# Altium footprint library SparkFun-IC-Special-Function.PCBLIB: 46 footprints (part 1 of 3)
Each footprint in its own frame and in the unit in brackets; x right, y up, seen from the top. Pads: shape width x height; smd on the part's side, far side on the other; paste and mask are expansions set on the pad; w line width, h text height; cw(c..) or ccw(c..) is an arc to the next point about the centre after c.
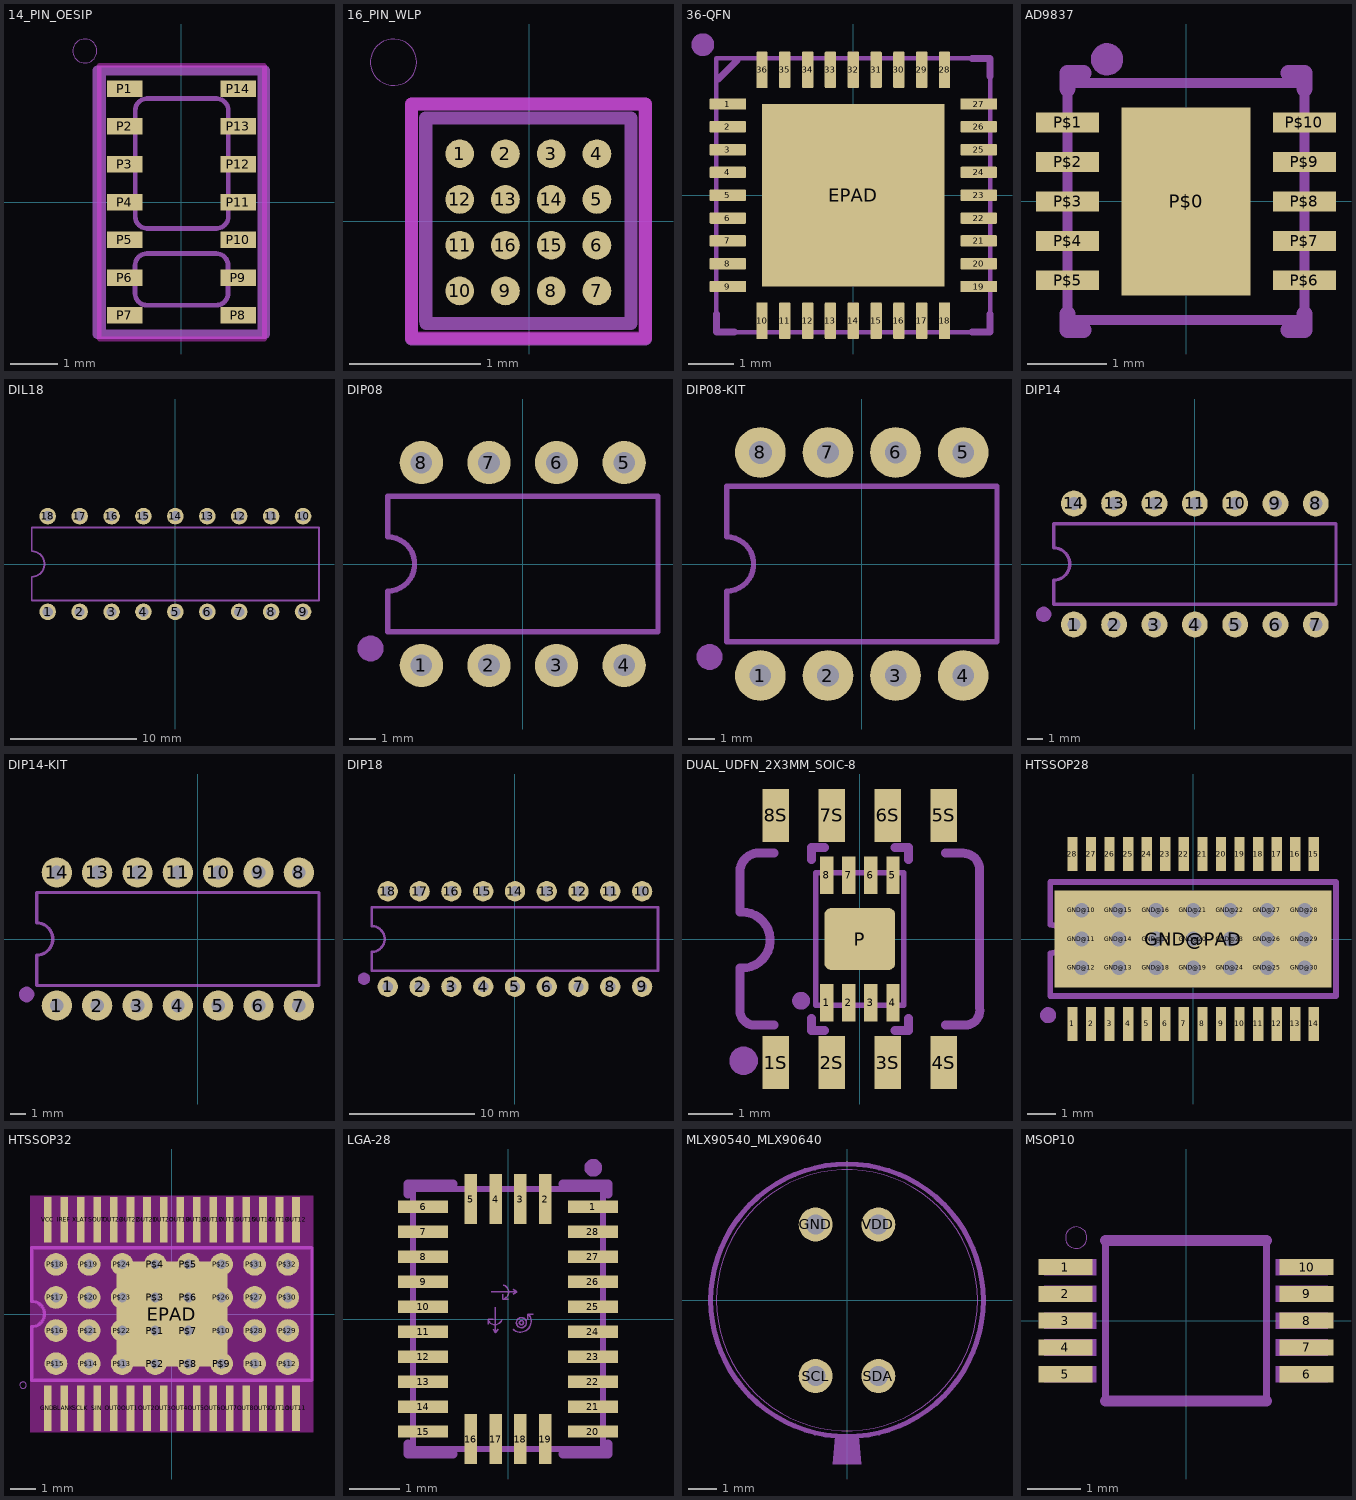
[diagram p0: the footprints below, top view; thin cyan lines are the x and y axes]

## 14_PIN_OESIP [mm]
pads (14):
  rect 0.75x0.35 smd: P1(-1.193,2.409) P2(-1.193,1.609) P3(-1.193,0.809) P4(-1.193,0.009) P5(-1.193,-0.791) P6(-1.193,-1.591) P7(-1.193,-2.391) P8(1.208,-2.391) P9(1.208,-1.591) P10(1.208,-0.791) P11(1.208,0.009) P12(1.208,0.809) P13(1.208,1.609) P14(1.208,2.409)
Top keep-out:
  lines w0.1: 1.761,2.908 -1.738,2.908 -1.737,-2.892 1.765,-2.891 1.764,-2.853 ; 1.764,-2.861 1.764,2.897
tDocu:
  lines w0.1: -1.638,-2.79 -1.638,2.81 1.662,2.81 1.662,-2.79 -1.638,-2.79 ; -0.978,-1.926 ccw(c-0.727,-1.926) -0.727,-2.176 0.742,-2.176 ccw(c0.742,-1.926) 0.992,-1.926 0.992,-1.332 ccw(c0.742,-1.332) 0.742,-1.082 -0.727,-1.082 ccw(c-0.728,-1.332) -0.978,-1.332 -0.978,-1.926 ; -0.973,-0.3 ccw(c-0.723,-0.3) -0.723,-0.55 0.748,-0.55 ccw(c0.748,-0.3) 0.997,-0.3 0.997,1.95 ccw(c0.747,1.95) 0.748,2.2 -0.723,2.2 ccw(c-0.723,1.95) -0.973,1.95 -0.973,-0.3
tPlace:
  circle w0: c-2.041,3.208 r0.254
  lines w0.203: -1.778,-2.794 1.778,-2.794 1.778,2.794 -1.778,2.794 -1.778,-2.794

## 16_PIN_WLP [mil]
pads (16):
  rrect100% 8.66x8.66 smd mask+0: 1(-20.94,20.39) 2(-7.17,20.39) 3(6.61,20.39) 4(20.39,20.39) 5(20.39,6.61) 6(20.39,-7.17) 7(20.39,-20.94) 8(6.61,-20.94) 9(-7.17,-20.94) 10(-20.94,-20.94) 11(-20.94,-7.17) 12(-20.94,6.61) 13(-7.17,6.61) 14(6.61,6.61) 15(6.61,-7.17) 16(-7.17,-7.17)
Top keep-out:
  lines w3.94: -35.51,-35.12 34.96,-35.12 34.96,35.35 -35.51,35.35 -35.51,-35.12
Top Solder:
  circle w0: c-20.94,-20.94 r4.33
  circle w0: c-7.17,-20.94 r4.33
  circle w0: c6.61,-20.94 r4.33
  circle w0: c20.39,-20.94 r4.33
  circle w0: c20.39,-7.17 r4.33
  circle w0: c6.61,-7.17 r4.33
  circle w0: c-7.17,-7.17 r4.33
  circle w0: c-20.94,-7.17 r4.33
  circle w0: c-20.94,6.61 r4.33
  circle w0: c-7.17,6.61 r4.33
  circle w0: c6.61,6.61 r4.33
  circle w0: c20.39,6.61 r4.33
  circle w0: c20.39,20.39 r4.33
  circle w0: c6.61,20.39 r4.33
  circle w0: c-7.17,20.39 r4.33
  circle w0: c-20.94,20.39 r4.33
tDocu:
  lines w3.94: -31.18,-30.07 -31.18,31.1 ; -31.15,-30.79 30.71,-30.79 ; -31.15,31.1 30.71,31.1 30.71,-30.07
tPlace:
  circle w0: c-40.87,47.95 r7
  lines w3.94: -35.43,-35.43 -35.43,35.43 35.08,35.43 35.08,-35.43 -35.43,-35.43

## 36-QFN [mil]
pads (37):
  rrect20% 31.5x9.84 smd paste+0: 1(-108.27,78.74) 2(-108.27,59.06) 3(-108.27,39.37) 4(-108.27,19.69) 5(-108.27,0) 6(-108.27,-19.69) 7(-108.27,-39.37) 8(-108.27,-59.06) 9(-108.27,-78.74) 19(108.27,-78.74) 20(108.27,-59.06) 21(108.27,-39.37) 22(108.27,-19.69) 23(108.27,0) 24(108.27,19.69) 25(108.27,39.37) 26(108.27,59.06) 27(108.27,78.74)
  rrect20% 9.84x31.5 smd paste+0: 10(-78.74,-108.27) 11(-59.06,-108.27) 12(-39.37,-108.27) 13(-19.69,-108.27) 14(0,-108.27) 15(19.69,-108.27) 16(39.37,-108.27) 17(59.06,-108.27) 18(78.74,-108.27) 28(78.74,108.27) 29(59.06,108.27) 30(39.37,108.27) 31(19.69,108.27) 32(0,108.27) 33(-19.69,108.27) 34(-39.37,108.27) 35(-59.06,108.27) 36(-78.74,108.27)
  rect 157.48x157.48 smd paste+0: EPAD(0,0)
Top Paste:
  drawing of 52 lines, arcs and shapes, not listed
tDocu:
  lines w3.94: -118.11,98.43 -98.43,118.11 ; -118.11,-118.11 118.11,-118.11 118.11,118.11 -118.11,118.11 -118.11,-118.11
tPlace:
  circle w9.84: c-129.92,129.92 r4.92
  lines w6: -118.11,-102.36 -118.11,-118.11 -102.36,-118.11 ; -116.14,100.39 -100.39,116.14 ; 102.36,-118.11 118.11,-118.11 118.11,-102.36 ; 102.36,118.11 118.11,118.11 118.11,102.36

## AD9837 [mil]
pads (11):
  rect 64.57x93.7 smd paste+0: P$0(0,0)
  rect 31.5x9.84 smd: P$1(-59.06,39.37) P$2(-59.06,19.69) P$3(-59.06,0) P$4(-59.06,-19.69) P$5(-59.06,-39.37) P$6(59.06,-39.37) P$7(59.06,-19.69) P$8(59.06,0) P$9(59.06,19.69) P$10(59.06,39.37)
Top Paste:
  region: -15,-20 -15,20 15,20 15,-20
tDocu:
  lines w5: -59.06,-59.06 -59.06,59.06 59.06,59.06 59.06,-59.06 -59.06,-59.06
tPlace:
  circle w5: c-39.37,70.87 r5.57
  lines w5: -43.31,70.87 -35.43,70.87 ; -39.37,66.93 -39.37,74.8
  lines w8: -59.06,-56.18 -59.06,-64.06 -51.18,-64.06 ; -59.06,56.18 -59.06,64.06 -51.18,64.06 ; 51.18,-64.06 59.06,-64.06 59.06,-56.18 ; 51.18,64.06 59.06,64.06 59.06,56.18

## DIL18 [mil]
pads (18):
  round 52 hole 32: 1(-400,-150) 2(-300,-150) 3(-200,-150) 4(-100,-150) 5(0,-150) 6(100,-150) 7(200,-150) 8(300,-150) 9(400,-150) 10(400,150) 11(300,150) 12(200,150) 13(100,150) 14(0,150) 15(-100,150) 16(-200,150) 17(-300,150) 18(-400,150)
tPlace:
  lines w6: -450,-115 450,-115 450,115 -450,115 -450,40 cw(c-450,0) -450,-40 -450,-115

## DIP08 [mil]
pads (8):
  round 64 hole 32: 1(-150,-150) 2(-50,-150) 3(50,-150) 4(150,-150) 5(150,150) 6(50,150) 7(-50,150) 8(-150,150)
tPlace:
  region: -243.75,-125 -243.75,-121.27 -240.9,-114.38 -235.62,-109.1 -228.73,-106.25 -225,-106.25 -221.27,-106.25 -214.38,-109.1 -209.1,-114.38 -206.25,-121.27 -206.25,-125 -206.25,-128.73 -209.1,-135.62 -214.38,-140.9 -221.27,-143.75 -225,-143.75 -228.73,-143.75 -235.62,-140.9 -240.9,-135.62 -243.75,-128.73 -243.75,-125
  lines w8: -200,-100 200,-100 200,100 -200,100 -200,40 cw(c-200,0) -200,-40 -200,-100

## DIP08-KIT [mil]
pads (8):
  round 75 hole 32: 1(-150,-165) 2(-50,-165) 3(50,-165) 4(150,-165) 5(150,165) 6(50,165) 7(-50,165)
  round 75 hole 34: 8(-150,165)
Top Solder:
  circle w0: c-150,165 r17
  circle w0: c-50,165 r17
  circle w0: c50,165 r17
  circle w0: c150,165 r17
  circle w0: c-150,-165 r17
  circle w0: c-50,-165 r17
  circle w0: c50,-165 r17
  circle w0: c150,-165 r17
Bottom Solder:
  circle w0: c-150,165 r42
  circle w0: c-50,165 r42
  circle w0: c50,165 r42
  circle w0: c150,165 r42
  circle w0: c-150,-165 r42
  circle w0: c-50,-165 r42
  circle w0: c50,-165 r42
  circle w0: c150,-165 r42
tPlace:
  region: -243.75,-137.5 -243.75,-133.77 -240.9,-126.88 -235.62,-121.6 -228.73,-118.75 -225,-118.75 -221.27,-118.75 -214.38,-121.6 -209.1,-126.88 -206.25,-133.77 -206.25,-137.5 -206.25,-141.23 -209.1,-148.12 -214.38,-153.4 -221.27,-156.25 -225,-156.25 -228.73,-156.25 -235.62,-153.4 -240.9,-148.12 -243.75,-141.23 -243.75,-137.5
  lines w8: -200,-115 -200,-40 ccw(c-200,0) -200,40 -200,115 200,115 200,-115 -200,-115

## DIP14 [mil]
pads (14):
  round 64 hole 32: 1(-300,-150) 2(-200,-150) 3(-100,-150) 4(0,-150) 5(100,-150) 6(200,-150) 7(300,-150) 8(300,150) 9(200,150) 10(100,150) 11(0,150) 12(-100,150) 13(-200,150) 14(-300,150)
tPlace:
  region: -393.75,-125 -393.75,-121.27 -390.9,-114.38 -385.62,-109.1 -378.73,-106.25 -375,-106.25 -371.27,-106.25 -364.38,-109.1 -359.1,-114.38 -356.25,-121.27 -356.25,-125 -356.25,-128.73 -359.1,-135.62 -364.38,-140.9 -371.27,-143.75 -375,-143.75 -378.73,-143.75 -385.62,-140.9 -390.9,-135.62 -393.75,-128.73 -393.75,-125
  lines w8: -350,-100 350,-100 350,100 -350,100 -350,40 cw(c-350,0) -350,-40 -350,-100

## DIP14-KIT [mil]
pads (14):
  round 75 hole 34: 1(-350,-165) 2(-250,-165) 3(-150,-165) 4(-50,-165) 5(50,-165) 6(150,-165) 7(250,-165) 8(250,165) 9(150,165) 10(50,165) 11(-50,165) 12(-150,165) 13(-250,165) 14(-350,165)
Top Solder:
  circle w0: c-350,165 r17
  circle w0: c-350,-165 r17
  circle w0: c-250,165 r17
  circle w0: c-250,-165 r17
  circle w0: c-150,165 r17
  circle w0: c-150,-165 r17
  circle w0: c-50,165 r17
  circle w0: c-50,-165 r17
  circle w0: c50,165 r17
  circle w0: c50,-165 r17
  circle w0: c150,165 r17
  circle w0: c150,-165 r17
  circle w0: c250,165 r17
  circle w0: c250,-165 r17
Bottom Solder:
  circle w0: c-350,165 r42
  circle w0: c-350,-165 r42
  circle w0: c-250,165 r42
  circle w0: c-250,-165 r42
  circle w0: c-150,165 r42
  circle w0: c-150,-165 r42
  circle w0: c-50,165 r42
  circle w0: c-50,-165 r42
  circle w0: c50,165 r42
  circle w0: c50,-165 r42
  circle w0: c150,165 r42
  circle w0: c150,-165 r42
  circle w0: c250,165 r42
  circle w0: c250,-165 r42
tPlace:
  region: -443.75,-137.5 -443.75,-133.77 -440.9,-126.88 -435.62,-121.6 -428.73,-118.75 -425,-118.75 -421.27,-118.75 -414.38,-121.6 -409.1,-126.88 -406.25,-133.77 -406.25,-137.5 -406.25,-141.23 -409.1,-148.12 -414.38,-153.4 -421.27,-156.25 -425,-156.25 -428.73,-156.25 -435.62,-153.4 -440.9,-148.12 -443.75,-141.23 -443.75,-137.5
  lines w8: -400,-115 -400,-40 ccw(c-400,0) -400,40 -400,115 300,115 300,-115 -400,-115

## DIP18 [mil]
pads (18):
  round 64 hole 32: 1(-400,-150) 2(-300,-150) 3(-200,-150) 4(-100,-150) 5(0,-150) 6(100,-150) 7(200,-150) 8(300,-150) 9(400,-150) 10(400,150) 11(300,150) 12(200,150) 13(100,150) 14(0,150) 15(-100,150) 16(-200,150) 17(-300,150) 18(-400,150)
tPlace:
  region: -493.75,-125 -493.75,-121.27 -490.9,-114.38 -485.62,-109.1 -478.73,-106.25 -475,-106.25 -471.27,-106.25 -464.38,-109.1 -459.1,-114.38 -456.25,-121.27 -456.25,-125 -456.25,-128.73 -459.1,-135.62 -464.38,-140.9 -471.27,-143.75 -475,-143.75 -478.73,-143.75 -485.62,-140.9 -490.9,-135.62 -493.75,-128.73 -493.75,-125
  lines w8: -450,-100 450,-100 450,100 -450,100 -450,40 cw(c-450,0) -450,-40 -450,-100

## DUAL_UDFN_2X3MM_SOIC-8 [mil]
pads (17):
  rect 11.81x33.46 smd: 1(-29.53,-57.09) 2(-9.84,-57.09) 3(9.84,-57.09) 4(29.53,-57.09) 5(29.53,57.09) 6(9.84,57.09) 7(-9.84,57.09) 8(-29.53,57.09)
  rect 23.62x47.24 smd: 1S(-75,-110.24) 2S(-25,-110.24) 3S(25,-110.24) 4S(75,-110.24) 5S(75,110.24) 6S(25,110.24) 7S(-25,110.24) 8S(-75,110.24)
  rrect20% 62.99x55.12 smd paste+0: P(0,0)
Top Paste:
  region: -25,-15 -25,15 25,15 25,-15
tDocu:
  region: -85,-130 -85,-89.5 -65,-89.5 -65,-130
  region: -35,-130 -35,-89.5 -15,-89.5 -15,-130
  region: 15,-130 15,-89.5 35,-89.5 35,-130
  region: 65,-130 65,-89.5 85,-89.5 85,-130
  region: -35,90 -35,130 -15,130 -15,90
  region: 15,90 15,130 35,130 35,90
  region: 65,90 65,130 85,130 85,90
  region: -85,90 -85,130 -65,130 -65,90
  lines w5: -39.37,-59.06 -39.37,59.06 39.37,59.06 39.37,-59.06 -39.37,-59.06
tPlace:
  circle w8: c-52.37,-55.11 r3.94
  region: -91.25,-108.75 -91.25,-106.26 -93.15,-101.67 -96.67,-98.15 -101.26,-96.25 -103.75,-96.25 -106.24,-96.25 -110.83,-98.15 -114.35,-101.67 -116.25,-106.26 -116.25,-108.75 -116.25,-111.24 -114.35,-115.83 -110.83,-119.35 -106.24,-121.25 -103.75,-121.25 -101.26,-121.25 -96.67,-119.35 -93.15,-115.83 -91.25,-111.24 -91.25,-108.75
  lines w8: -107,-26 -107,-65.56 ccw(c-93.97,-63.6) -92,-76.63 -76.63,-76.63 ; -107,24 -107,57.19 ; -107,57.69 cw(c-90.03,59.66) -92,76.63 -76.63,76.63 ; -105,-26 ccw(c-105,-1) -105,24 ; -43.31,-70.87 -43.31,-81.68 -31.5,-81.68 ; -43.31,70.87 -43.31,81.68 -31.5,81.68 ; 31.5,-81.68 43.31,-81.68 43.31,-70.87 ; 31.5,81.68 43.31,81.68 43.31,70.87 ; 76.63,-76.63 95.94,-76.63 ccw(c93.97,-63.6) 107,-61.63 107,61.63 ccw(c92,61.63) 92,76.63 76.63,76.63
Reference:
  circle w1: c20,0 r5.9
  circle w1: c-20,0 r5.9

## HTSSOP28 [mil]
pads (50):
  rect 14.17x46.85 smd: 1(-166.34,-116.93) 2(-140.75,-116.93) 3(-115.16,-116.93) 4(-89.57,-116.93) 5(-63.98,-116.93) 6(-38.39,-116.93) 7(-12.8,-116.93) 8(12.8,-116.93) 9(38.39,-116.93) 10(63.98,-116.93) 11(89.57,-116.93) 12(115.16,-116.93) 13(140.75,-116.93) 14(166.34,-116.93) 15(166.34,116.93) 16(140.75,116.93) 17(115.16,116.93) 18(89.57,116.93) 19(63.98,116.93) 20(38.39,116.93) 21(12.8,116.93) 22(-12.8,116.93) 23(-38.39,116.93) 24(-63.98,116.93) 25(-89.57,116.93) 26(-115.16,116.93) 27(-140.75,116.93) 28(-166.34,116.93)
  round 40 hole 20: GND@10(-153.54,39.37) GND@11(-153.54,0) GND@12(-153.54,-39.37) GND@13(-102.36,-39.37) GND@14(-102.36,0) GND@15(-102.36,39.37) GND@16(-51.18,39.37) GND@17(-51.18,0) GND@18(-51.18,-39.37) GND@19(0,-39.37) GND@20(0,0) GND@21(0,39.37) GND@22(51.18,39.37) GND@23(51.18,0) GND@24(51.18,-39.37) GND@25(102.36,-39.37) GND@26(102.36,0) GND@27(102.36,39.37) GND@28(153.54,39.37) GND@29(153.54,0) GND@30(153.54,-39.37)
  rect 381.89x133.86 smd paste+0 mask+0: GND@PAD(0,0)
Top Paste:
  region: -98.43,-59.06 -98.43,59.06 98.43,59.06 98.43,-59.06
Top Solder:
  region: -101.97,-61.02 -101.97,61.02 101.97,61.02 101.97,-61.02
tPlace:
  circle w12: c-200,-105 r5
  lines w8: -196.85,-78.74 -196.85,-19.69 ccw(c-196.85,0) -196.85,19.69 -196.85,78.74 196.85,78.74 196.85,-78.74 -196.85,-78.74

## HTSSOP32 [mil]
pads (65):
  rect 11.81x70.87 smd paste+0 mask+0: BLANK(-166.34,-145.67) GND(-191.93,-145.67) IREF(-166.34,145.67) OUT0(-89.57,-145.67) OUT1(-63.98,-145.67) OUT2(-38.39,-145.67) OUT3(-12.8,-145.67) OUT4(12.8,-145.67) OUT5(38.39,-145.67) OUT6(63.98,-145.67) OUT7(89.57,-145.67) OUT8(115.16,-145.67) OUT9(140.75,-145.67) OUT10(166.34,-145.67) OUT11(191.93,-145.67) OUT12(191.93,145.67) OUT13(166.34,145.67) OUT14(140.75,145.67) OUT15(115.16,145.67) OUT16(89.57,145.67) OUT17(63.98,145.67) OUT18(38.39,145.67) OUT19(12.8,145.67) OUT20(-12.8,145.67) OUT21(-38.39,145.67) OUT22(-63.98,145.67) OUT23(-89.57,145.67) SCLK(-140.75,-145.67) SIN(-115.16,-145.67) SOUT(-115.16,145.67) VCC(-191.93,145.67) XLAT(-140.75,145.67)
  rect 171.65x161.81 smd paste+0 mask+0: EPAD(0,0)
  round 35 hole 15: P$1(-25.59,-25.59) P$2(-25.59,-76.77) P$3(-25.59,25.59) P$4(-25.59,76.77) P$5(25.59,76.77) P$6(25.59,25.59) P$7(25.59,-25.59) P$8(25.59,-76.77) P$9(76.77,-76.77) P$10(76.77,-25.59) P$11(127.95,-76.77) P$12(179.13,-76.77) P$13(-76.77,-76.77) P$14(-127.95,-76.77) P$15(-179.13,-76.77) P$16(-179.13,-25.59) P$17(-179.13,25.59) P$18(-179.13,76.77) P$19(-127.95,76.77) P$20(-127.95,25.59) P$21(-127.95,-25.59) P$22(-76.77,-25.59) P$23(-76.77,25.59) P$24(-76.77,76.77) P$25(76.77,76.77) P$26(76.77,25.59) P$27(127.95,25.59) P$28(127.95,-25.59) P$29(179.13,-25.59) P$30(179.13,25.59) P$31(127.95,76.77) P$32(179.13,76.77)
Top keep-out:
  region: -218.54,-183.1 -218.54,183.1 218.54,183.1 218.54,-183.1
Top Paste:
  region: -78.74,-73.82 -78.74,73.82 78.74,73.82 78.74,-73.82
  region: -15.94,-178.35 -15.94,-112.99 -9.65,-112.99 -9.65,-178.35
  region: -15.94,-178.35 -15.94,-112.99 -9.65,-112.99 -9.65,-178.35
  region: -41.54,-178.35 -41.54,-112.99 -35.24,-112.99 -35.24,-178.35
  region: -67.13,-178.35 -67.13,-112.99 -60.83,-112.99 -60.83,-178.35
  region: -92.72,-178.35 -92.72,-112.99 -86.42,-112.99 -86.42,-178.35
  region: -118.31,-178.35 -118.31,-112.99 -112.01,-112.99 -112.01,-178.35
  region: -143.9,-178.35 -143.9,-112.99 -137.6,-112.99 -137.6,-178.35
  region: -169.49,-178.35 -169.49,-112.99 -163.19,-112.99 -163.19,-178.35
  region: -195.08,-178.35 -195.08,-112.99 -188.78,-112.99 -188.78,-178.35
  region: 9.65,-178.35 9.65,-112.99 15.94,-112.99 15.94,-178.35
  region: 35.24,-178.35 35.24,-112.99 41.54,-112.99 41.54,-178.35
  region: 60.83,-178.35 60.83,-112.99 67.13,-112.99 67.13,-178.35
  region: 112.01,-178.35 112.01,-112.99 118.31,-112.99 118.31,-178.35
  region: 86.42,-178.35 86.42,-112.99 92.72,-112.99 92.72,-178.35
  region: 137.6,-178.35 137.6,-112.99 143.9,-112.99 143.9,-178.35
  region: 163.19,-178.35 163.19,-112.99 169.49,-112.99 169.49,-178.35
  region: 188.78,-178.35 188.78,-112.99 195.08,-112.99 195.08,-178.35
  region: 188.78,112.99 188.78,178.35 195.08,178.35 195.08,112.99
  region: 163.19,112.99 163.19,178.35 169.49,178.35 169.49,112.99
  region: 137.6,112.99 137.6,178.35 143.9,178.35 143.9,112.99
  region: 112.01,112.99 112.01,178.35 118.31,178.35 118.31,112.99
  region: 86.42,112.99 86.42,178.35 92.72,178.35 92.72,112.99
  region: 60.83,112.99 60.83,178.35 67.13,178.35 67.13,112.99
  region: 35.24,112.99 35.24,178.35 41.54,178.35 41.54,112.99
  region: 9.65,112.99 9.65,178.35 15.94,178.35 15.94,112.99
  region: -15.94,112.99 -15.94,178.35 -9.65,178.35 -9.65,112.99
  region: -41.54,112.99 -41.54,178.35 -35.24,178.35 -35.24,112.99
  region: -67.13,112.99 -67.13,178.35 -60.83,178.35 -60.83,112.99
  region: -118.31,112.99 -118.31,178.35 -112.01,178.35 -112.01,112.99
  region: -92.72,112.99 -92.72,178.35 -86.42,178.35 -86.42,112.99
  region: -143.9,112.99 -143.9,178.35 -137.6,178.35 -137.6,112.99
  region: -169.49,112.99 -169.49,178.35 -163.19,178.35 -163.19,112.99
  region: -195.08,112.99 -195.08,178.35 -188.78,178.35 -188.78,112.99
Top Solder:
  region: -85.83,-80.91 -85.83,80.91 85.83,80.91 85.83,-80.91
  region: -197.83,-181.1 -197.83,-110.24 -186.02,-110.24 -186.02,-181.1
  region: -197.83,110.24 -197.83,181.1 -186.02,181.1 -186.02,110.24
  region: -172.24,110.24 -172.24,181.1 -160.43,181.1 -160.43,110.24
  region: -146.65,110.24 -146.65,181.1 -134.84,181.1 -134.84,110.24
  region: -121.06,110.24 -121.06,181.1 -109.25,181.1 -109.25,110.24
  region: -95.47,110.24 -95.47,181.1 -83.66,181.1 -83.66,110.24
  region: -69.88,110.24 -69.88,181.1 -58.07,181.1 -58.07,110.24
  region: -44.29,110.24 -44.29,181.1 -32.48,181.1 -32.48,110.24
  region: -18.7,110.24 -18.7,181.1 -6.89,181.1 -6.89,110.24
  region: 6.89,110.24 6.89,181.1 18.7,181.1 18.7,110.24
  region: 32.48,110.24 32.48,181.1 44.29,181.1 44.29,110.24
  region: 58.07,110.24 58.07,181.1 69.88,181.1 69.88,110.24
  region: 83.66,110.24 83.66,181.1 95.47,181.1 95.47,110.24
  region: 109.25,110.24 109.25,181.1 121.06,181.1 121.06,110.24
  region: 134.84,110.24 134.84,181.1 146.65,181.1 146.65,110.24
  region: 160.43,110.24 160.43,181.1 172.24,181.1 172.24,110.24
  region: 186.02,110.24 186.02,181.1 197.83,181.1 197.83,110.24
  region: 186.02,-181.1 186.02,-110.24 197.83,-110.24 197.83,-181.1
  region: 160.43,-181.1 160.43,-110.24 172.24,-110.24 172.24,-181.1
  region: 134.84,-181.1 134.84,-110.24 146.65,-110.24 146.65,-181.1
  region: 109.25,-181.1 109.25,-110.24 121.06,-110.24 121.06,-181.1
  region: 83.66,-181.1 83.66,-110.24 95.47,-110.24 95.47,-181.1
  region: 58.07,-181.1 58.07,-110.24 69.88,-110.24 69.88,-181.1
  region: 32.48,-181.1 32.48,-110.24 44.29,-110.24 44.29,-181.1
  region: 6.89,-181.1 6.89,-110.24 18.7,-110.24 18.7,-181.1
  region: -18.7,-181.1 -18.7,-110.24 -6.89,-110.24 -6.89,-181.1
  region: -44.29,-181.1 -44.29,-110.24 -32.48,-110.24 -32.48,-181.1
  region: -69.88,-181.1 -69.88,-110.24 -58.07,-110.24 -58.07,-181.1
  region: -95.47,-181.1 -95.47,-110.24 -83.66,-110.24 -83.66,-181.1
  region: -121.06,-181.1 -121.06,-110.24 -109.25,-110.24 -109.25,-181.1
  region: -146.65,-181.1 -146.65,-110.24 -134.84,-110.24 -134.84,-181.1
  region: -172.24,-181.1 -172.24,-110.24 -160.43,-110.24 -160.43,-181.1
tPlace:
  circle w0: c-230,-110 r5
  lines w5: -216.54,-102.36 216.54,-102.36 216.54,102.36 -216.54,102.36 -216.54,19.69 cw(c-216.54,0) -196.85,0 cw(c-216.54,0) -216.54,-19.69 -216.54,-102.36

## LGA-28 [mm]
pads (28):
  rect 1x0.25 smd paste+0: 1(1.7,2.25) 6(-1.7,2.25) 7(-1.7,1.75) 8(-1.7,1.25) 9(-1.7,0.75) 10(-1.7,0.25) 11(-1.7,-0.25) 12(-1.7,-0.75) 13(-1.7,-1.25) 14(-1.7,-1.75) 15(-1.7,-2.25) 20(1.7,-2.25) 21(1.7,-1.75) 22(1.7,-1.25) 23(1.7,-0.75) 24(1.7,-0.25) 25(1.7,0.25) 26(1.7,0.75) 27(1.7,1.25) 28(1.7,1.75)
  rect 0.25x1 smd paste+0: 2(0.75,2.4) 3(0.25,2.4) 4(-0.25,2.4) 5(-0.75,2.4) 16(-0.75,-2.4) 17(-0.25,-2.4) 18(0.25,-2.4) 19(0.75,-2.4)
Top Paste:
  region: -1.9,2.125 -1.9,2.375 -1.2,2.375 -1.2,2.125
  region: -1.9,1.125 -1.9,1.375 -1.2,1.375 -1.2,1.125
  region: -1.9,0.125 -1.9,0.375 -1.2,0.375 -1.2,0.125
  region: -1.9,-0.875 -1.9,-0.625 -1.2,-0.625 -1.2,-0.875
  region: -1.9,-1.875 -1.9,-1.625 -1.2,-1.625 -1.2,-1.875
  region: 0.875,-2.6 0.625,-2.6 0.625,-1.9 0.875,-1.9
  region: -0.125,-2.6 -0.375,-2.6 -0.375,-1.9 -0.125,-1.9
  region: 1.9,-2.125 1.9,-2.375 1.2,-2.375 1.2,-2.125
  region: 1.9,-1.125 1.9,-1.375 1.2,-1.375 1.2,-1.125
  region: 1.9,-0.125 1.9,-0.375 1.2,-0.375 1.2,-0.125
  region: 1.9,0.875 1.9,0.625 1.2,0.625 1.2,0.875
  region: 1.9,1.875 1.9,1.625 1.2,1.625 1.2,1.875
  region: 0.625,2.6 0.875,2.6 0.875,1.9 0.625,1.9
  region: -0.375,2.6 -0.125,2.6 -0.125,1.9 -0.375,1.9
  region: 0.125,2.6 0.375,2.6 0.375,1.9 0.125,1.9
  region: -0.875,2.6 -0.625,2.6 -0.625,1.9 -0.875,1.9
  region: -1.9,1.625 -1.9,1.875 -1.2,1.875 -1.2,1.625
  region: -1.9,0.625 -1.9,0.875 -1.2,0.875 -1.2,0.625
  region: -1.9,-0.375 -1.9,-0.125 -1.2,-0.125 -1.2,-0.375
  region: -1.9,-1.375 -1.9,-1.125 -1.2,-1.125 -1.2,-1.375
  region: -1.9,-2.375 -1.9,-2.125 -1.2,-2.125 -1.2,-2.375
  region: -0.625,-2.6 -0.875,-2.6 -0.875,-1.9 -0.625,-1.9
  region: 0.375,-2.6 0.125,-2.6 0.125,-1.9 0.375,-1.9
  region: 1.9,-1.625 1.9,-1.875 1.2,-1.875 1.2,-1.625
  region: 1.9,-0.625 1.9,-0.875 1.2,-0.875 1.2,-0.625
  region: 1.9,0.375 1.9,0.125 1.2,0.125 1.2,0.375
  region: 1.9,1.375 1.9,1.125 1.2,1.125 1.2,1.375
  region: 1.9,2.375 1.9,2.125 1.2,2.125 1.2,2.375
tDocu:
  circle w0.025: c0.269,-0.073 r0.041
  circle w0.025: c0.269,-0.073 r0.1
  lines w0.025: -0.4,-0.1 -0.4,0 ; -0.332,0.545 0.173,0.545 ; -0.3,-0.2 -0.255,-0.273 ; -0.3,0 -0.4,0 ; -0.255,0.232 -0.255,-0.273 ; -0.2,-0.2 -0.255,-0.273 ; -0.12,-0.003 cw(c-0.26,0.03) -0.4,0 ; -0.1,0.5 -0.1,0.4 ; -0.097,0.68 cw(c-0.13,0.54) -0.1,0.4 ; 0,0.4 -0.1,0.4 ; 0.1,-0.2 ccw(c0.25,-0.05) 0.4,0.1 ; 0.1,0.5 0.173,0.545 ; 0.1,0.6 0.173,0.545 ; 0.4,0 0.4,0.1 ; 0.5,0.1 0.4,0.1
  lines w0.127: -1.9,-2.6 1.9,-2.6 1.9,2.6 -1.9,2.6 -1.9,-2.6
  text "Y" at 0.4,0.5 h0.22
  text "Z" at 0.3,-0.6 h0.22
  text "X" at -0.255,-0.462 h0.22
tPlace:
  circle w0.203: c1.706,3.025 r0.076
  lines w0.178: -2,-2.5 -2,-2.7 -1.1,-2.7 ; -2,2.5 -2,2.7 -1.1,2.7 ; 1.1,-2.7 2,-2.7 2,-2.5 ; 1.1,2.7 2,2.7 2,2.5

## MLX90540_MLX90640 [mil]
pads (4):
  round 47.56 hole 27.56: GND(-43.99,106.21) SCL(-43.99,-106.21) SDA(43.99,-106.21) VDD(43.99,106.21)
Bottom Solder:
  circle w27.56: c-44.01,-106.24 r10
  circle w27.56: c43.99,-106.21 r10
  circle w27.56: c43.99,106.21 r10
  circle w27.56: c-43.99,106.21 r10
tDocu:
  circle w0.1: c0,0 r183.07
  circle w0: c-43.99,-106.21 r22.05
  circle w0: c43.99,106.21 r22.05
  circle w0: c-43.99,106.21 r22.05
  circle w0: c43.99,-106.21 r22.05
tPlace:
  circle w7: c0,0 r190.94
  region: -16.64,-190.22 -20.07,-229.44 20.07,-229.44 16.64,-190.22 12.51,-190.86 4.18,-191.58 -4.18,-191.58 -12.51,-190.86 -16.64,-190.22

## MSOP10 [mm]
pads (10):
  rect 1x0.3 smd paste+0 mask+0: 1(-2.25,1) 2(-2.25,0.5) 3(-2.25,0) 4(-2.25,-0.5) 5(-2.25,-1) 6(2.25,-1) 7(2.25,-0.5) 8(2.25,0) 9(2.25,0.5) 10(2.25,1)
Top Paste:
  region: -2.7,1.125 -1.825,1.125 -1.825,0.875 -2.7,0.875
  region: -2.7,0.625 -1.825,0.625 -1.825,0.375 -2.7,0.375
  region: -2.7,0.125 -1.825,0.125 -1.825,-0.125 -2.7,-0.125
  region: -2.7,-0.375 -1.825,-0.375 -1.825,-0.625 -2.7,-0.625
  region: -2.7,-0.875 -1.825,-0.875 -1.825,-1.125 -2.7,-1.125
  region: 2.7,-1.125 1.825,-1.125 1.825,-0.875 2.7,-0.875
  region: 2.7,-0.625 1.825,-0.625 1.825,-0.375 2.7,-0.375
  region: 2.7,-0.125 1.825,-0.125 1.825,0.125 2.7,0.125
  region: 2.7,0.375 1.825,0.375 1.825,0.625 2.7,0.625
  region: 2.7,0.875 1.825,0.875 1.825,1.125 2.7,1.125
Top Solder:
  region: -2.8,1.2 -1.7,1.2 -1.7,0.8 -2.8,0.8
  region: -2.8,0.7 -1.7,0.7 -1.7,0.3 -2.8,0.3
  region: -2.8,0.2 -1.7,0.2 -1.7,-0.2 -2.8,-0.2
  region: -2.8,-0.3 -1.7,-0.3 -1.7,-0.7 -2.8,-0.7
  region: -2.8,-0.8 -1.7,-0.8 -1.7,-1.2 -2.8,-1.2
  region: 2.8,-1.2 1.7,-1.2 1.7,-0.8 2.8,-0.8
  region: 2.8,-0.7 1.7,-0.7 1.7,-0.3 2.8,-0.3
  region: 2.8,-0.2 1.7,-0.2 1.7,0.2 2.8,0.2
  region: 2.8,0.3 1.7,0.3 1.7,0.7 2.8,0.7
  region: 2.8,0.8 1.7,0.8 1.7,1.2 2.8,1.2
tDocu:
  region: -2.65,1.15 -1.675,1.15 -1.675,0.85 -2.65,0.85
  region: -2.65,0.65 -1.675,0.65 -1.675,0.35 -2.65,0.35
  region: -2.65,0.15 -1.675,0.15 -1.675,-0.15 -2.65,-0.15
  region: -2.65,-0.35 -1.675,-0.35 -1.675,-0.65 -2.65,-0.65
  region: -2.65,-0.85 -1.675,-0.85 -1.675,-1.15 -2.65,-1.15
  region: 2.65,-1.15 1.675,-1.15 1.675,-0.85 2.65,-0.85
  region: 2.65,-0.65 1.675,-0.65 1.675,-0.35 2.65,-0.35
  region: 2.65,-0.15 1.675,-0.15 1.675,0.15 2.65,0.15
  region: 2.65,0.35 1.675,0.35 1.675,0.65 2.65,0.65
  region: 2.65,0.85 1.675,0.85 1.675,1.15 2.65,1.15
  lines w0.127: -1.5,-1.5 -1.5,1.5 ; 1.5,-1.5 1.5,1.5
tPlace:
  circle w0: c-2.05,1.55 r0.2
  lines w0.203: -1.5,-1.5 1.5,-1.5 ; -1.5,1.5 1.5,1.5